# EAGLE library part 632723300011 (library Eagle_WR-USB (rev25c))
WR-COM USB 3.1 Type C Receptacle Horizontal THR / SMT General Information Operating Temperature -40 °C up to +105 °C Durability 10 000 Mating cycles Connector Type USB 3.1 Type C Gender Receptacle Type Horizontal Electrical Properties Working Voltage 48 V (DC) Withstanding Voltage 100 V (AC) Contact Resistance 30 mΩ Material Properties Insulator Material LCP Insulator Flammability Rating UL94 V-0 Insulator Color Black Contact Material Brass Contact Plating 2µ” Gold over 30µ” Pd-Ni Contact Type Stamped Shielding Material Steel Shielding Plating Matte Tin <https://www.we-online.com/components/media/o144501v209%20Family_WR-COM_632723x00011.jpg> Details see: www.we-online.com/en/components/products/COM_3_1_THR_SMT_TYPE_C_RECEPTACLE_HORIZONTAL <www.we-online.com/catalog/COM_3_1_THR_SMT_TYPE_C_RECEPTACLE_HORIZONTAL/?utm_source=eagle_model&utm_medium=description_link&utm_campaign=eisos_eagle> Updated by Ella 2025-09-04 2025 (C) Würth Elektronik
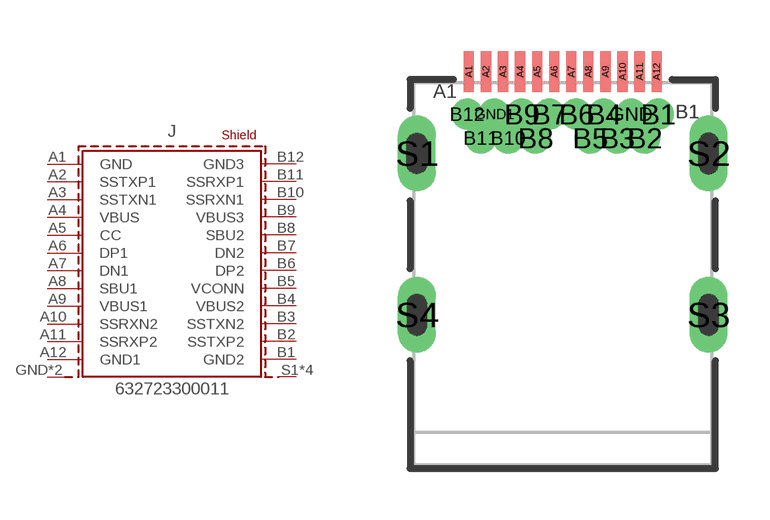
[diagram p13: symbol with the pads of 632723300011; footprint 632723300011]

Designator prefix J

## 632723300011 (APPLICATION: USB 3.1; DATASHEET-URL: https://www.we-online.com/redexpert/spec/632723300011?ae; GERDER: Receptacle; INTERFACE-TYPE: Type C; MOUNT: THR; PACKAGING: Tape and Reel; PART-NUMBER: 632723300011; PINS: 24pcs; TYPE: Horizontal; VALUE: 632723300011; WORKING-VOLTAGE: 48VDC)  [632723300011]
A1  GND  pas
A2  SSTXP1  pas
A3  SSTXN1  pas
A4  VBUS  pas
A5  CC  pas
A6  DP1  pas
A7  DN1  pas
A8  SBU1  pas
A9  VBUS1  pas
A10  SSRXN2  pas
A11  SSRXP2  pas
A12  GND1  pas
B1  GND2  pas
B2  SSTXP2  pas
B3  SSTXN2  pas
B4  VBUS2  pas
B5  VCONN  pas
B6  DP2  pas
B7  DN2  pas
B8  SBU2  pas
B9  VBUS3  pas
B10  SSRXN1  pas
B11  SSRXP1  pas
B12  GND3  pas
GND  SHIELD  pas
GND1  SHIELD  pas
S1  SHIELD1  pas
S2  SHIELD1  pas
S3  SHIELD1  pas
S4  SHIELD1  pas

## Footprint 632723300011 (pad centres in mm)
WR-COM USB 3.1 Type C Receptacle Horizontal THT / SMT
smd 0.3 x 1.2: A1 -2.75,5.93; A2 -2.25,5.93; A3 -1.75,5.93; A4 -1.25,5.93; A5 -0.75,5.93; A6 -0.25,5.93; A7 0.25,5.93; A8 0.75,5.93; A9 1.25,5.93; A10 1.75,5.93; A11 2.25,5.93; A12 2.75,5.93
drill 0.4 pad 0.65: B1 2.8,4.68; B2 2.4,3.98; B3 1.6,3.98; B4 1.2,4.68; B5 0.8,3.98; B6 0.4,4.68; B7 -0.4,4.68; B8 -0.8,3.98; B9 -1.2,4.68; B10 -1.6,3.98; B11 -2.4,3.98; B12 -2.8,4.68; GND 2,4.68; GND1 -2,4.68
drill 0.6 pad 0.6 long: S1 -4.27,3.53; S2 4.27,3.53; S3 4.27,-1.2; S4 -4.27,-1.2